# Altium schematic symbol library MPC5554MVR132.SchLib: 1 symbol
Pins are listed as number, name and electrical type; pins without a type are passive.

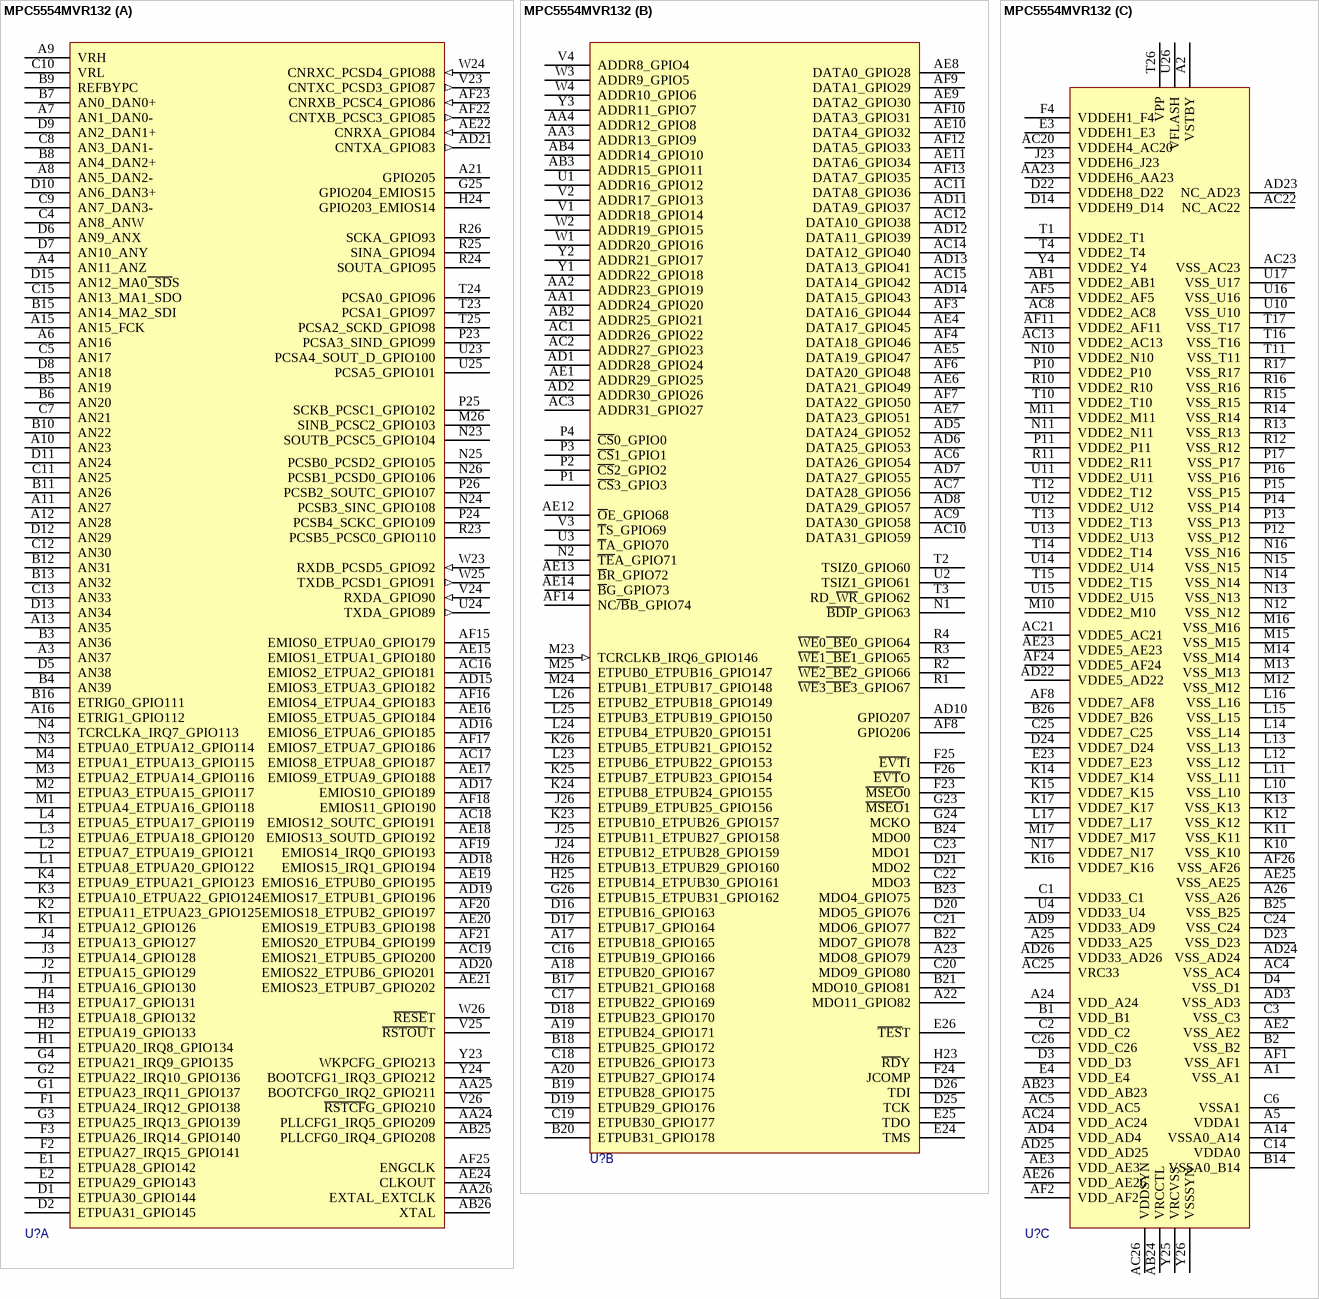
[diagram p0: symbol MPC5554MVR132]

## MPC5554MVR132
designator U?
part A pins: A3 AN37, A4 AN11_ANZ, A6 AN16, A7 AN1_DAN0-, A8 AN5_DAN2-, A9 VRH, A10 AN23, A11 AN27, A12 AN28, A13 AN35, A15 AN15_FCK, A16 ETRIG1_GPIO112, A21 GPIO205, AA24 PLLCFG1_IRQ5_GPIO209, AA25 BOOTCFG0_IRQ2_GPIO211, AA26 EXTAL_EXTCLK, AB25 PLLCFG0_IRQ4_GPIO208, AB26 XTAL, AC16 EMIOS2_ETPUA2_GPIO181, AC17 EMIOS8_ETPUA8_GPIO187, AC18 EMIOS12_SOUTC_GPIO191, AC19 EMIOS21_ETPUB5_GPIO200, AD15 EMIOS3_ETPUA3_GPIO182, AD16 EMIOS6_ETPUA6_GPIO185, AD17 EMIOS10_GPIO189, AD18 EMIOS15_IRQ1_GPIO194, AD19 EMIOS17_ETPUB1_GPIO196, AD20 EMIOS22_ETPUB6_GPIO201, AD21 CNTXA_GPIO83 (out), AE15 EMIOS1_ETPUA1_GPIO180, AE16 EMIOS5_ETPUA5_GPIO184, AE17 EMIOS9_ETPUA9_GPIO188, AE18 EMIOS13_SOUTD_GPIO192, AE19 EMIOS16_ETPUB0_GPIO195, AE20 EMIOS19_ETPUB3_GPIO198, AE21 EMIOS23_ETPUB7_GPIO202, AE22 CNRXA_GPIO84 (in), AE24 CLKOUT, AF15 EMIOS0_ETPUA0_GPIO179, AF16 EMIOS4_ETPUA4_GPIO183, AF17 EMIOS7_ETPUA7_GPIO186, AF18 EMIOS11_GPIO190, AF19 EMIOS14_IRQ0_GPIO193, AF20 EMIOS18_ETPUB2_GPIO197, AF21 EMIOS20_ETPUB4_GPIO199, AF22 CNTXB_PCSC3_GPIO85 (out), AF23 CNRXB_PCSC4_GPIO86 (in), AF25 ENGCLK, B3 AN36, B4 AN39, B5 AN19, B6 AN20, B7 AN0_DAN0+, B8 AN4_DAN2+, B9 REFBYPC, B10 AN22, B11 AN26, B12 AN31, B13 AN32, B15 AN14_MA2_SDI, B16 ETRIG0_GPIO111, C4 AN8_ANW, C5 AN17, C7 AN21, C8 AN3_DAN1-, C9 AN7_DAN3-, C10 VRL, C11 AN25, C12 AN30, C13 AN33, C15 AN13_MA1_SDO, D1 ETPUA30_GPIO144, D2 ETPUA31_GPIO145, D5 AN38, D6 AN9_ANX, D7 AN10_ANY, D8 AN18, D9 AN2_DAN1+, D10 AN6_DAN3+, D11 AN24, D12 AN29, D13 AN34, D15 AN12_MA0~{_}~{SD}S, E1 ETPUA28_GPIO142, E2 ETPUA29_GPIO143, F1 ETPUA24_IRQ12_GPIO138, F2 ETPUA27_IRQ15_GPIO141, F3 ETPUA26_IRQ14_GPIO140, G1 ETPUA23_IRQ11_GPIO137, G2 ETPUA22_IRQ10_GPIO136, G3 ETPUA25_IRQ13_GPIO139, G4 ETPUA21_IRQ9_GPIO135, G25 GPIO204_EMIOS15, H1 ETPUA20_IRQ8_GPIO134, H2 ETPUA19_GPIO133, H3 ETPUA18_GPIO132, H4 ETPUA17_GPIO131, H24 GPIO203_EMIOS14, J1 ETPUA16_GPIO130, J2 ETPUA15_GPIO129, J3 ETPUA14_GPIO128, J4 ETPUA13_GPIO127, K1 ETPUA12_GPIO126, K2 ETPUA11_ETPUA23_GPIO125, K3 ETPUA10_ETPUA22_GPIO124, K4 ETPUA9_ETPUA21_GPIO123, L1 ETPUA8_ETPUA20_GPIO122, L2 ETPUA7_ETPUA19_GPIO121, L3 ETPUA6_ETPUA18_GPIO120, L4 ETPUA5_ETPUA17_GPIO119, M1 ETPUA4_ETPUA16_GPIO118, M2 ETPUA3_ETPUA15_GPIO117, M3 ETPUA2_ETPUA14_GPIO116, M4 ETPUA1_ETPUA13_GPIO115, M26 SINB_PCSC2_GPIO103, N3 ETPUA0_ETPUA12_GPIO114, N4 TCRCLKA_IRQ7_GPIO113, N23 SOUTB_PCSC5_GPIO104, N24 PCSB3_SINC_GPIO108, N25 PCSB0_PCSD2_GPIO105, N26 PCSB1_PCSD0_GPIO106, P23 PCSA3_SIND_GPIO99, P24 PCSB4_SCKC_GPIO109, P25 SCKB_PCSC1_GPIO102, P26 PCSB2_SOUTC_GPIO107, R23 PCSB5_PCSC0_GPIO110, R24 SOUTA_GPIO95, R25 SINA_GPIO94, R26 SCKA_GPIO93, T23 PCSA1_GPIO97, T24 PCSA0_GPIO96, T25 PCSA2_SCKD_GPIO98, U23 PCSA4_SOUT_D_GPIO100, U24 TXDA_GPIO89 (out), U25 PCSA5_GPIO101, V23 CNTXC_PCSD3_GPIO87 (out), V24 RXDA_GPIO90 (in), V25 ~{RSTOU}T, V26 ~{RSTCF}G_GPIO210, W23 RXDB_PCSD5_GPIO92 (in), W24 CNRXC_PCSD4_GPIO88 (in), W25 TXDB_PCSD1_GPIO91 (out), W26 ~{RESE}T, Y23 WKPCFG_GPIO213, Y24 BOOTCFG1_IRQ3_GPIO212
part B pins: A17 ETPUB18_GPIO165, A18 ETPUB20_GPIO167, A19 ETPUB24_GPIO171, A20 ETPUB27_GPIO174, A22 MDO11_GPIO82, A23 MDO8_GPIO79, AA1 ADDR24_GPIO20, AA2 ADDR23_GPIO19, AA3 ADDR13_GPIO9, AA4 ADDR12_GPIO8, AB2 ADDR25_GPIO21, AB3 ADDR15_GPIO11, AB4 ADDR14_GPIO10, AC1 ADDR26_GPIO22, AC2 ADDR27_GPIO23, AC3 ADDR31_GPIO27, AC6 DATA26_GPIO54, AC7 DATA28_GPIO56, AC9 DATA30_GPIO58, AC10 DATA31_GPIO59, AC11 DATA8_GPIO36, AC12 DATA10_GPIO38, AC14 DATA12_GPIO40, AC15 DATA14_GPIO42, AD1 ADDR28_GPIO24, AD2 ADDR30_GPIO26, AD5 DATA24_GPIO52, AD6 DATA25_GPIO53, AD7 DATA27_GPIO55, AD8 DATA29_GPIO57, AD10 GPIO207, AD11 DATA9_GPIO37, AD12 DATA11_GPIO39, AD13 DATA13_GPIO41, AD14 DATA15_GPIO43, AE1 ADDR29_GPIO25, AE4 DATA17_GPIO45, AE5 DATA19_GPIO47, AE6 DATA21_GPIO49, AE7 DATA23_GPIO51, AE8 DATA0_GPIO28, AE9 DATA2_GPIO30, AE10 DATA4_GPIO32, AE11 DATA6_GPIO34, AE12 ~{O}E_GPIO68, AE13 ~{B}R_GPIO72, AE14 ~{B}G_GPIO73, AF3 DATA16_GPIO44, AF4 DATA18_GPIO46, AF6 DATA20_GPIO48, AF7 DATA22_GPIO50, AF8 GPIO206, AF9 DATA1_GPIO29, AF10 DATA3_GPIO31, AF12 DATA5_GPIO33, AF13 DATA7_GPIO35, AF14 NC~{/}~{B}B_GPIO74, B17 ETPUB21_GPIO168, B18 ETPUB25_GPIO172, B19 ETPUB28_GPIO175, B20 ETPUB31_GPIO178, B21 MDO10_GPIO81, B22 MDO7_GPIO78, B23 MDO4_GPIO75, B24 MDO0, C16 ETPUB19_GPIO166, C17 ETPUB22_GPIO169, C18 ETPUB26_GPIO173, C19 ETPUB30_GPIO177, C20 MDO9_GPIO80, C21 MDO6_GPIO77, C22 MDO3, C23 MDO1, D16 ETPUB16_GPIO163, D17 ETPUB17_GPIO164, D18 ETPUB23_GPIO170, D19 ETPUB29_GPIO176, D20 MDO5_GPIO76, D21 MDO2, D25 TCK, D26 TDI, E24 TMS, E25 TDO, E26 ~{TES}T, F23 ~{MSEO}0, F24 JCOMP, F25 ~{EVT}I, F26 ~{EVT}O, G23 ~{MSEO}1, G24 MCKO, G26 ETPUB15_ETPUB31_GPIO162, H23 ~{RD}Y, H25 ETPUB14_ETPUB30_GPIO161, H26 ETPUB13_ETPUB29_GPIO160, J24 ETPUB12_ETPUB28_GPIO159, J25 ETPUB11_ETPUB27_GPIO158, J26 ETPUB9_ETPUB25_GPIO156, K23 ETPUB10_ETPUB26_GPIO157, K24 ETPUB8_ETPUB24_GPIO155, K25 ETPUB7_ETPUB23_GPIO154, K26 ETPUB5_ETPUB21_GPIO152, L23 ETPUB6_ETPUB22_GPIO153, L24 ETPUB4_ETPUB20_GPIO151, L25 ETPUB3_ETPUB19_GPIO150, L26 ETPUB2_ETPUB18_GPIO149, M23 TCRCLKB_IRQ6_GPIO146 (in), M24 ETPUB1_ETPUB17_GPIO148, M25 ETPUB0_ETPUB16_GPIO147, N1 ~{BDI}P_GPIO63, N2 ~{TE}A_GPIO71, P1 ~{CS}3_GPIO3, P2 ~{CS}2_GPIO2, P3 ~{CS}1_GPIO1, P4 ~{CS}0_GPIO0, R1 ~{WE}3~{_BE}3_GPIO67, R2 ~{WE}2~{_BE}2_GPIO66, R3 ~{WE}1~{_BE}1_GPIO65, R4 ~{WE}0~{_BE}0_GPIO64, T2 TSIZ0_GPIO60, T3 RD_~{WR}_GPIO62, U1 ADDR16_GPIO12, U2 TSIZ1_GPIO61, U3 ~{T}A_GPIO70, V1 ADDR18_GPIO14, V2 ADDR17_GPIO13, V3 ~{T}S_GPIO69, V4 ADDR8_GPIO4, W1 ADDR20_GPIO16, W2 ADDR19_GPIO15, W3 ADDR9_GPIO5, W4 ADDR10_GPIO6, Y1 ADDR22_GPIO18, Y2 ADDR21_GPIO17, Y3 ADDR11_GPIO7
part C pins: A1 VSS_A1 (power), A2 VSTBY, A5 VDDA1, A14 VSSA0_A14 (power), A24 VDD_A24, A25 VDD33_A25 (power), A26 VSS_A26 (power), AA23 VDDEH6_AA23, AB1 VDDE2_AB1 (power), AB23 VDD_AB23 (power), AB24 VRCCTL, AC4 VSS_AC4 (power), AC5 VDD_AC5 (power), AC8 VDDE2_AC8 (power), AC13 VDDE2_AC13 (power), AC20 VDDEH4_AC20, AC21 VDDE5_AC21 (power), AC22 NC_AC22, AC23 VSS_AC23, AC24 VDD_AC24 (power), AC25 VRC33, AC26 VDDSYN, AD3 VSS_AD3 (power), AD4 VDD_AD4 (power), AD9 VDD33_AD9 (power), AD22 VDDE5_AD22, AD23 NC_AD23, AD24 VSS_AD24, AD25 VDD_AD25 (power), AD26 VDD33_AD26, AE2 VSS_AE2 (power), AE3 VDD_AE3 (power), AE23 VDDE5_AE23 (power), AE25 VSS_AE25 (power), AE26 VDD_AE26 (power), AF1 VSS_AF1 (power), AF2 VDD_AF2 (power), AF5 VDDE2_AF5 (power), AF8 VDDE7_AF8 (power), AF11 VDDE2_AF11 (power), AF24 VDDE5_AF24 (power), AF26 VSS_AF26 (power), B1 VDD_B1 (power), B2 VSS_B2 (power), B14 VSSA0_B14 (power), B25 VSS_B25 (power), B26 VDDE7_B26 (power), C1 VDD33_C1 (power), C2 VDD_C2 (power), C3 VSS_C3 (power), C6 VSSA1, C14 VDDA0, C24 VSS_C24 (power), C25 VDDE7_C25 (power), C26 VDD_C26 (power), D3 VDD_D3 (power), D4 VSS_D1 (power), D14 VDDEH9_D14 (power), D22 VDDEH8_D22, D23 VSS_D23 (power), D24 VDDE7_D24 (power), E3 VDDEH1_E3, E4 VDD_E4 (power), E23 VDDE7_E23 (power), F4 VDDEH1_F4 (power), J23 VDDEH6_J23 (power), K10 VSS_K10 (power), K11 VSS_K11 (power), K12 VSS_K12 (power), K13 VSS_K13 (power), K14 VDDE7_K14, K15 VDDE7_K15 (power), K16 VDDE7_K16 (power), K17 VDDE7_K17 (power), L10 VSS_L10 (power), L11 VSS_L11 (power), L12 VSS_L12 (power), L13 VSS_L13 (power), L14 VSS_L14 (power), L15 VSS_L15 (power), L16 VSS_L16 (power), L17 VDDE7_L17 (power), M10 VDDE2_M10, M11 VDDE2_M11 (power), M12 VSS_M12 (power), M13 VSS_M13 (power), M14 VSS_M14 (power), M15 VSS_M15 (power), M16 VSS_M16 (power), M17 VDDE7_M17 (power), N10 VDDE2_N10 (power), N11 VDDE2_N11 (power), N12 VSS_N12 (power), N13 VSS_N13 (power), N14 VSS_N14 (power), N15 VSS_N15 (power), N16 VSS_N16 (power), N17 VDDE7_N17 (power), P10 VDDE2_P10 (power), P11 VDDE2_P11 (power), P12 VSS_P12 (power), P13 VSS_P13 (power), P14 VSS_P14 (power), P15 VSS_P15 (power), P16 VSS_P16 (power), P17 VSS_P17 (power), R10 VDDE2_R10 (power), R11 VDDE2_R11 (power), R12 VSS_R12 (power), R13 VSS_R13 (power), R14 VSS_R14 (power), R15 VSS_R15 (power), R16 VSS_R16 (power), R17 VSS_R17 (power), T1 VDDE2_T1 (power), T4 VDDE2_T4 (power), T10 VDDE2_T10 (power), T11 VSS_T11 (power), T12 VDDE2_T12 (power), T13 VDDE2_T13 (power), T14 VDDE2_T14 (power), T15 VDDE2_T15 (power), T16 VSS_T16 (power), T17 VSS_T17 (power), T26 VPP, U4 VDD33_U4 (power), U10 VSS_U10 (power), U11 VDDE2_U11 (power), U12 VDDE2_U12 (power), U13 VDDE2_U13 (power), U14 VDDE2_U14 (power), U15 VDDE2_U15 (power), U16 VSS_U16 (power), U17 VSS_U17 (power), U26 VFLASH, Y4 VDDE2_Y4 (power), Y25 VRCVSS, Y26 VSSSYN